# Altium schematic symbol library Cap Var.Schlib: 1 symbol
Pins are listed as number, name and electrical type; pins without a type are passive.

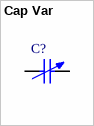
[diagram p0: symbol Cap Var]

## Cap Var
designator C?
Variable or Adjustable Capacitor
pins: 1, 2